# Altium footprint library 32k_Osc.PcbLib: 1 footprints
Each footprint in its own frame and in the unit in brackets; x right, y up, seen from the top. Pads: shape width x height; smd on the part's side, far side on the other; paste and mask are expansions set on the pad; w line width, h text height; cw(c..) or ccw(c..) is an arc to the next point about the centre after c.
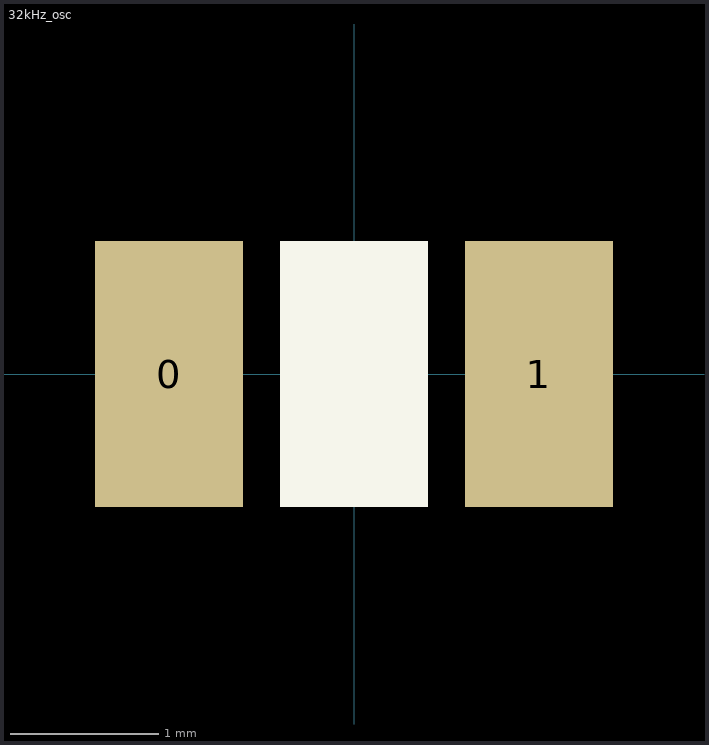
[diagram p0: the footprint, top view; thin cyan lines are the x and y axes]

## 32kHz_osc [mm] "oscillator"
pads (2):
  rect 1x1.8 smd: 0(-1.25,0) 1(1.25,0)
Top Overlay:
  rectangle: -0.5,-0.9 0.5,0.9
3D body: height 0.6, standoff 0, extent -1.6,-0.75 1.6,0.75
3D body: height 0.8, standoff 0.25, extent -1.3,-0.5 1.3,0.5